# EAGLE library part 52559-1233 (library 52559-1233)
FFC & FPC Connectors 0.5 FPC ZIF 12Ckt Sn-Ag-Bi Source: Datasheet
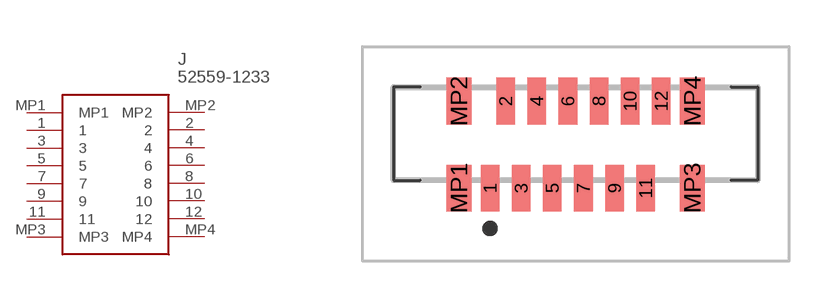
[diagram p0: symbol with the pads of 525591233; footprint 525591233]

Designator prefix J

## 52559-1233 (Description: FFC & FPC Connectors 0.5 FPC ZIF 12Ckt Sn-Ag-Bi; Height: 5.55mm; Manufacturer_Name: Molex; Manufacturer_Part_Number: 52559-1233; Mouser_Part_Number: 538-52559-1233; Mouser_Price-Stock: https://www.mouser.co.uk/ProductDetail/Molex/52559-1233?qs=Q7nJoqLg%252BZgmtCe8OD7vZw%3D%3D)  [525591233]
1  1
2  2
3  3
4  4
5  5
6  6
7  7
8  8
9  9
10  10
11  11
12  12
MP1  MP1
MP2  MP2
MP3  MP3
MP4  MP4

## Footprint 525591233 (pad centres in mm)
52559-1233-1
smd 0.6 x 1.5: 1 -2.75,-1.4; 2 -2.25,1.4; 3 -1.75,-1.4; 4 -1.25,1.4; 5 -0.75,-1.4; 6 -0.25,1.4; 7 0.25,-1.4; 8 0.75,1.4; 9 1.25,-1.4; 10 1.75,1.4; 11 2.25,-1.4; 12 2.75,1.4
smd 0.8 x 1.5: MP1 -3.75,-1.4; MP2 -3.75,1.4; MP3 3.75,-1.4; MP4 3.75,1.4